# Altium footprint library BASE_BD.PcbLib: 63 footprints (part 3 of 4)
Each footprint in its own frame and in the unit in brackets; x right, y up, seen from the top. Pads: shape width x height; smd on the part's side, far side on the other; paste and mask are expansions set on the pad; w line width, h text height; cw(c..) or ccw(c..) is an arc to the next point about the centre after c.
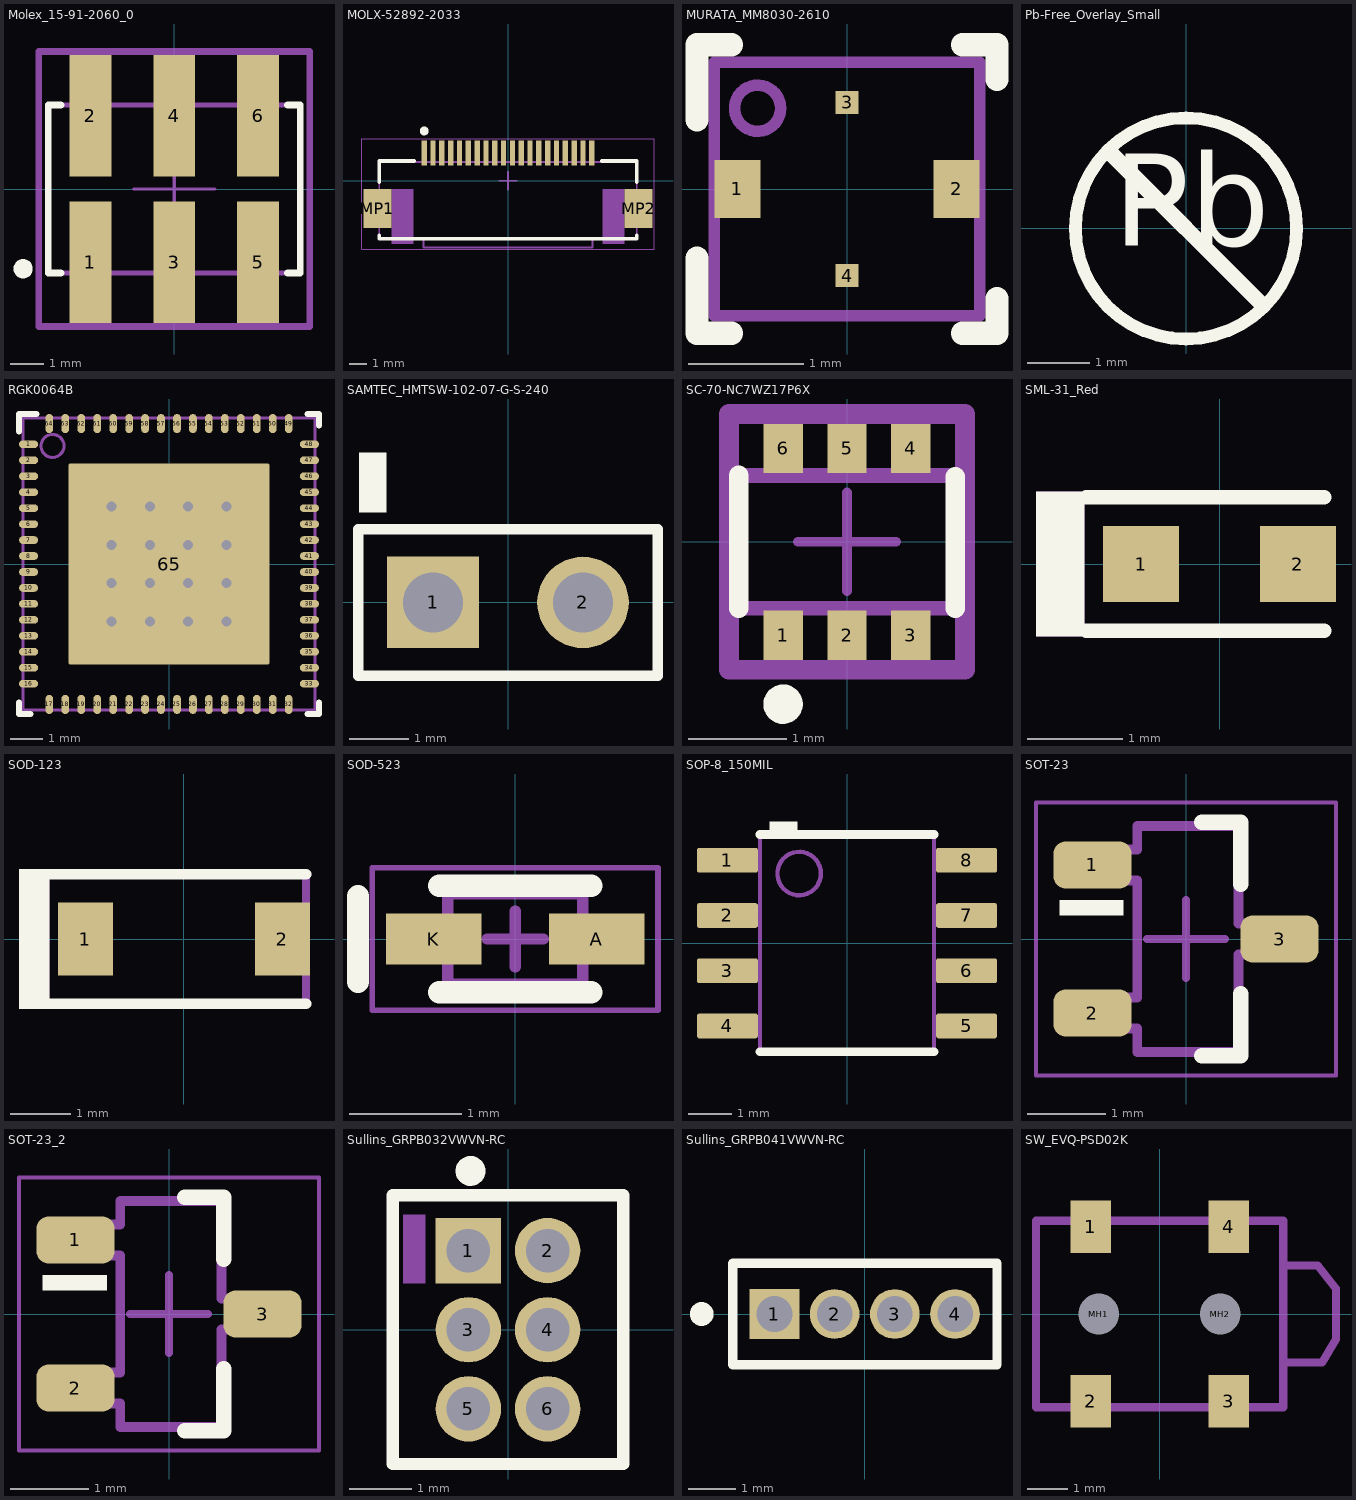
[diagram p2: the footprints below, top view; thin cyan lines are the x and y axes]

## Molex_15-91-2060_0 [mm]
pads (6):
  rect 1.27x3.68 smd paste+0 mask+0: 1(-2.54,-2.22) 2(-2.54,2.22) 3(0,-2.22) 4(0,2.22) 5(2.54,-2.22) 6(2.54,2.22)
Top Overlay:
  circle w0.33: c-4.572,-2.413 r0.125
  lines w0.2: -3.81,-2.54 -3.81,2.54 ; 3.81,-2.54 3.81,2.54
  lines w0.203: -3.81,-2.54 -3.429,-2.54 ; -3.81,2.54 -3.429,2.54 ; 3.429,-2.54 3.81,-2.54 ; 3.429,2.54 3.81,2.54
Mechanical 10:
  lines w0.2: -4.1,-4.16 4.1,-4.16 4.1,4.16 -4.1,4.16 -4.1,-4.16
  text ".Designator" at 0,0 h1
Mechanical 12:
  lines w0.15: -3.81,-2.54 3.81,-2.54 3.81,2.54 -3.81,2.54 -3.81,-2.54
Mechanical 15:
  lines w0.1: -1.23,0 1.23,0 ; 0,-1.23 0,1.23
  lines w0.2: -4.1,-4.16 4.1,-4.16 4.1,4.16 -4.1,4.16 -4.1,-4.16
3D body "3dmodel.step": height 0.25, standoff 0, extent -4.1,-4.16 4.1,4.16

## MOLX-52892-2033 [mm] "FPC Connector, 20-Leads, Right Angle, Pitch 0.5 mm, Mated Height 2.0 mm, SMT"
height 2.052
pads (22):
  rect 0.3x1.4 smd: 1(-4.75,1.575) 2(-4.25,1.575) 3(-3.75,1.575) 4(-3.25,1.575) 5(-2.75,1.575) 6(-2.25,1.575) 7(-1.75,1.575) 8(-1.25,1.575) 9(-0.75,1.575) 10(-0.25,1.575) 11(0.25,1.575) 12(0.75,1.575) 13(1.25,1.575) 14(1.75,1.575) 15(2.25,1.575) 16(2.75,1.575) 17(3.25,1.575) 18(3.75,1.575) 19(4.25,1.575) 20(4.75,1.575)
  rect 1.6x2.2 smd: MP1(-7.4,-1.575) MP2(7.4,-1.575)
Top Overlay:
  circle w0.25: c-4.75,2.825 r0.125
  lines w0.2: -7.3,-3.075 -7.3,-3.275 7.3,-3.275 7.3,-3.075 ; -7.3,-0.075 -7.3,1.125 -5.3,1.125 ; 5.3,1.125 7.3,1.125 7.3,-0.075
Mechanical 1:
  rectangle: 5.35,-3.581 6.6,-0.475
  rectangle: -6.604,-3.575 -5.35,-0.457
Mechanical 13:
  lines w0.1: -7.3,-3.275 -4.785,-3.275 -4.785,-3.775 4.785,-3.775 4.785,-3.275 7.3,-3.275 7.3,1.125 5.5,1.125 5.5,1.075 -5.5,1.075 -5.5,1.125 -7.3,1.125 -7.3,-3.275
Mechanical 15:
  lines w0.05: -8.3,-3.875 -8.3,2.375 8.3,2.375 8.3,-3.875 -8.3,-3.875
  lines w0.1: -0.5,0 0.5,0 ; 0,-0.5 0,0.5
3D body "528922033.stp": height 2.05, standoff 0.01, extent -7.7,-3.775 7.7,1.725

## MURATA_MM8030-2610 [mm] "Coaxial Connectors with Switch, SMD"
height 1
pads (4):
  rect 0.4x0.5 smd paste-0.5: 1(-0.95,0) 2(0.95,0)
  rect 0.2x0.2 smd: 3(0,0.75)
  rect 0.2x0.2 smd paste-0.2: 4(0,-0.75)
Top Overlay:
  lines w0.2: -1.3,-0.6 -1.3,-1.25 -1,-1.25 ; -1.3,0.6 -1.3,1.25 -1,1.25 ; 1,-1.25 1.3,-1.25 1.3,-0.95 ; 1,1.25 1.3,1.25 1.3,0.95
Top Paste:
  rectangle: -0.5,0.649 0.5,1.149
  rectangle: -1.15,-0.175 -0.8,0.175
  rectangle: 0.8,-0.175 1.15,0.175
  rectangle: -0.5,-1.149 0.5,-0.649
Top Solder:
  region: -0.32,0.45 -0.55,0.68 -0.55,1.15 0.55,1.15 0.55,0.68 0.32,0.45
  region: -0.32,-0.45 -0.55,-0.68 -0.55,-1.15 0.55,-1.15 0.55,-0.68 0.32,-0.45
Mechanical 5:
  circle w0.1: c-0.775,0.7 r0.2
  lines w0.1: -1.15,-1.1 1.15,-1.1 1.15,1.1 -1.15,1.1 -1.15,-1.1
  text ".Designator" at -0.32,0.45 h0.5
3D body: height 0.5, standoff 0, extent -1.151,-1.101 1.151,1.101
3D body: height 0.53, standoff 0.51, extent -1.151,-1.101 1.151,1.101
3D body: height 0.54, standoff 0.5, extent -0.674,-0.674 0.674,0.674
3D body: height 1, standoff 0.5, extent -0.674,-0.674 0.674,0.674
3D body: height 0.75, standoff 0.5, extent -0.269,-0.269 0.269,0.269
3D body: height 0.53, standoff 0, extent -0.7,0.6 0.7,1.1
3D body: height 0.53, standoff 0, extent -0.7,-1.1 0.7,-0.6
3D body: height 0.53, standoff 0, extent 0.9,-0.4 1.15,0.4
3D body: height 0.53, standoff 0, extent -1.15,-0.4 -0.9,0.4
3D body: height 0.51, standoff 0.5, extent -1.024,0.7 -0.825,0.9

## Pb-Free_Overlay_Small [mm]
Top Overlay:
  circle w0.203: c0,0 r1.778
  lines w0.254: -1.194,1.194 1.206,-1.206
  text "Pb" at -1.168,-0.762 h2.54

## RGK0064B [mm] "QFN, 9.0x9.0"
height 1
pads (65):
  rrect100% 0.6x0.24 smd paste-0.04: 1(-4.4,3.75) 2(-4.4,3.25) 3(-4.4,2.75) 4(-4.4,2.25) 5(-4.4,1.75) 6(-4.4,1.25) 7(-4.4,0.75) 8(-4.4,0.25) 9(-4.4,-0.25) 10(-4.4,-0.75) 11(-4.4,-1.25) 12(-4.4,-1.75) 13(-4.4,-2.25) 14(-4.4,-2.75) 15(-4.4,-3.25) 16(-4.4,-3.75) 33(4.4,-3.75) 34(4.4,-3.25) 35(4.4,-2.75) 36(4.4,-2.25) 37(4.4,-1.75) 38(4.4,-1.25) 39(4.4,-0.75) 40(4.4,-0.25) 41(4.4,0.25) 42(4.4,0.75) 43(4.4,1.25) 44(4.4,1.75) 45(4.4,2.25) 46(4.4,2.75) 47(4.4,3.25) 48(4.4,3.75)
  rrect100% 0.24x0.6 smd paste-0.04: 17(-3.75,-4.4) 18(-3.25,-4.4) 19(-2.75,-4.4) 20(-2.25,-4.4) 21(-1.75,-4.4) 22(-1.25,-4.4) 23(-0.75,-4.4) 24(-0.25,-4.4) 25(0.25,-4.4) 26(0.75,-4.4) 27(1.25,-4.4) 28(1.75,-4.4) 29(2.25,-4.4) 30(2.75,-4.4) 31(3.25,-4.4) 32(3.75,-4.4) 49(3.75,4.4) 50(3.25,4.4) 51(2.75,4.4) 52(2.25,4.4) 53(1.75,4.4) 54(1.25,4.4) 55(0.75,4.4) 56(0.25,4.4) 57(-0.25,4.4) 58(-0.75,4.4) 59(-1.25,4.4) 60(-1.75,4.4) 61(-2.25,4.4) 62(-2.75,4.4) 63(-3.25,4.4) 64(-3.75,4.4)
  rrect2% 6.3x6.3 smd paste-4: 65(0,0)
via -0.6,0.6 diameter 0.61 hole 0.307
via 0.6,0.6 diameter 0.61 hole 0.307
via 1.8,0.6 diameter 0.61 hole 0.307
via 1.8,1.8 diameter 0.61 hole 0.307
via 0.6,1.8 diameter 0.61 hole 0.307
via -0.6,1.8 diameter 0.61 hole 0.307
via -1.8,1.8 diameter 0.61 hole 0.307
via -1.8,0.6 diameter 0.61 hole 0.307
via 1.8,-0.6 diameter 0.61 hole 0.307
via 0.6,-0.6 diameter 0.61 hole 0.307
via -0.6,-0.6 diameter 0.61 hole 0.307
via -1.8,-0.6 diameter 0.61 hole 0.307
via -1.8,-1.8 diameter 0.61 hole 0.307
via -0.6,-1.8 diameter 0.61 hole 0.307
via 0.6,-1.8 diameter 0.61 hole 0.307
via 1.8,-1.8 diameter 0.61 hole 0.307
Top Overlay:
  lines w0.2: -4.7,-4.35 -4.7,-4.7 -4.35,-4.7 ; -4.7,4.15 -4.7,4.7 -4.15,4.7 ; 4.35,-4.7 4.7,-4.7 4.7,-4.35 ; 4.35,4.7 4.7,4.7 4.7,4.35
Top Paste:
  rectangle: -2.896,-1.697 -1.897,-0.698
  rectangle: -2.896,-0.499 -1.897,0.5
  rectangle: -1.697,-1.697 -0.698,-0.698
  rectangle: -0.5,-1.697 0.499,-0.698
  rectangle: -2.896,-2.896 -1.897,-1.897
  rectangle: -1.697,-2.896 -0.698,-1.897
  rectangle: -0.5,-2.896 0.499,-1.897
  rectangle: 0.698,-1.697 1.697,-0.698
  rectangle: 1.887,0.699 2.886,1.698
  rectangle: 1.897,1.897 2.896,2.896
  rectangle: 0.698,1.897 1.697,2.896
  rectangle: 0.698,0.698 1.697,1.697
  rectangle: 0.698,-0.499 1.697,0.5
  rectangle: 1.897,-2.896 2.896,-1.897
  rectangle: 1.897,-1.697 2.896,-0.698
  rectangle: 0.698,-2.896 1.697,-1.897
  rectangle: -2.896,1.897 -1.897,2.896
  rectangle: -1.697,1.897 -0.698,2.896
  rectangle: -0.499,1.897 0.5,2.896
  rectangle: -0.499,-0.499 0.5,0.5
  rectangle: -2.896,0.698 -1.897,1.697
  rectangle: -1.697,0.698 -0.698,1.697
  rectangle: -0.499,0.698 0.5,1.697
  rectangle: -1.697,-0.499 -0.698,0.5
  rectangle: 1.897,-0.499 2.896,0.5
Mechanical 5:
  circle w0.1: c-3.65,3.7 r0.361
  lines w0.1: -4.575,-4.575 -4.575,4.575 4.575,4.575 4.575,-4.575 -4.575,-4.575
  text ".Designator" at 1.062,0.536 h1.02
3D body: height 1.02, standoff 0.5, extent -4.01,3.34 -3.29,4.06
3D body: height 1, standoff 0, extent -4.574,-4.574 4.574,4.574

## SAMTEC_HMTSW-102-07-G-S-240 [mm] "Header, 2.54mm, 2x1, TH"
height 8.58
pads (2):
  rect 1.55x1.55 hole 1.02: 1(-1.27,0)
  round 1.55 hole 1.02: 2(1.27,0)
Top Overlay:
  region: -2.055,2.543 -2.527,2.543 -2.527,1.527 -2.055,1.527
  lines w0.178: -2.54,-1.24 2.54,-1.24 2.54,1.24 -2.54,1.24 -2.54,-1.24
Mechanical 5:
  lines w0.127: -2.54,-1.24 2.54,-1.24 2.54,1.24 -2.54,1.24 -2.54,-1.24
  text ".Designator" at -1.524,-0.508 h1.02
3D body "Samtec-HMTSW-102-07-G-S-240.stp": height 8.64, standoff -2.29, extent -2.54,-1.27 2.54,1.27

## SC-70-NC7WZ17P6X [mm]
pads (6):
  rect 0.4x0.5 smd paste+0 mask+0: 1(-0.65,-0.95) 2(0,-0.95) 3(0.65,-0.95) 4(0.65,0.95) 5(0,0.95) 6(-0.65,0.95)
Top Overlay:
  circle w0.2: c-0.65,-1.651 r0.1
  lines w0.2: -1.1,-0.675 -1.1,0.675 ; 1.1,-0.675 1.1,0.66
Mechanical 10:
  lines w0.2: -1.2,-1.3 -1.2,1.3 1.2,1.3 1.2,-1.3 -1.2,-1.3
  text ".Designator" at 0,0 h1
Mechanical 12:
  lines w0.15: -1.1,-0.675 -1.1,0.675 1.1,0.675 1.1,-0.675 -1.1,-0.675
Mechanical 15:
  lines w0.1: -0.5,0 0.5,0 ; 0,-0.5 0,0.5
  lines w0.2: -1.2,-1.3 -1.2,1.3 1.2,1.3 1.2,-1.3 -1.2,-1.3
3D body "IC_ON_Semi_NC7WZ17P6X_eec.STEP": height 0.25, standoff 0, extent -1.2,-1.3 1.2,1.3

## SML-31_Red [mm] "Rohm"
height 0.9
pads (2):
  rect 0.8x0.8 smd: 1(-0.825,0) 2(0.825,0)
Top Overlay:
  region: -1.422,0.762 -1.93,0.762 -1.93,-0.762 -1.422,-0.762
  lines w0.152: -1.4,-0.7 1.1,-0.7 ; -1.4,0.7 1.1,0.7
Mechanical 5:
  region: -1.422,0.762 -1.93,0.762 -1.93,-0.762 -1.422,-0.762
  lines w0.127: -1.626,-0.7 1.1,-0.7 ; -1.626,0.7 1.1,0.7
  text ".Designator" at -1.092,-0.305 h0.6
3D body: height 0.91, standoff 0.9, extent -0.65,-0.45 -0.45,0.45
3D body: height 0.3, standoff 0, extent -0.85,-0.45 -0.65,0.45
3D body: height 0.9, standoff 0, extent -0.65,-0.45 0.65,0.45
3D body: height 0.3, standoff 0, extent 0.65,-0.45 0.85,0.45

## SOD-123 [mm] "On Semi recommended land pattern"
height 1.35
pads (2):
  rect 0.915x1.22 smd: 1(-1.637,0) 2(1.637,0)
Top Overlay:
  rectangle: -2.743,-1.168 -2.235,1.168
  lines w0.178: -2.413,-1.079 2.032,-1.079 ; -2.413,1.079 2.032,1.079
Mechanical 5:
  rectangle: -2.743,-1.168 -2.235,1.168
  lines w0.127: -2.413,-1.079 2.032,-1.079 2.032,1.079 -2.413,1.079
  text ".Designator" at -0.711,-0.432 h0.76
3D body "SOD-123.stp": height 1.35, standoff 0, extent -1.932,-0.9 1.932,0.9

## SOD-523 [mm] "SOD, 2-Leads"
height 0.7
pads (2):
  rect 0.85x0.45 smd: A(0.725,0) K(-0.725,0)
Top Overlay:
  lines w0.2: -1.397,-0.381 -1.397,0.381 ; -0.675,-0.475 0.675,-0.475 ; -0.675,0.475 0.675,0.475
Mechanical 13:
  lines w0.1: -0.6,-0.4 -0.6,0.4 0.6,0.4 0.6,-0.4 -0.6,-0.4
Mechanical 15:
  lines w0.05: -1.27,-0.635 1.27,-0.635 1.27,0.635 -1.27,0.635 -1.27,-0.635
  lines w0.1: -0.25,0 0.25,0 ; 0,-0.25 0,0.25
3D body "User Library-SOD-523_SCD80_SC-79.STEP": height 0.6, standoff -0.2, extent -0.9,-0.449 0.9,0.45

## SOP-8_150MIL [mm] "SOP, 8-Leads, Body 5.03x4mm, Pitch 1.27mm"
height 1.75
pads (8):
  rrect18% 1.4x0.57 smd: 1(-2.75,1.905) 2(-2.75,0.635) 3(-2.75,-0.635) 4(-2.75,-1.905) 5(2.75,-1.905) 6(2.75,-0.635) 7(2.75,0.635) 8(2.75,1.905)
Top Overlay:
  rectangle: -1.778,2.54 -1.143,2.794
  lines w0.2: -2,-2.5 2,-2.5 ; -2,2.5 2,2.5
Mechanical 5:
  circle w0.1: c-1.1,1.6 r0.5
  lines w0.1: -2,-2.5 2,-2.5 2,2.5 -2,2.5 -2,-2.5
  text ".Designator" at -0.941,-0.237 h0.51
3D body: height 1.75, standoff 0.1, extent -2,-2.5 2,2.5
3D body: height 1.76, standoff 1.75, extent -1.599,1.101 -0.601,2.099

## SOT-23 [mm]
height 0.6
pads (3):
  rrect50% 1x0.6 smd: 1(-1.2,0.95) 2(-1.2,-0.95) 3(1.2,0)
Top Overlay:
  rectangle: -1.625,0.299 -0.8,0.499
  lines w0.2: 0.2,-1.5 0.7,-1.5 0.7,-0.7 ; 0.2,1.5 0.7,1.5 0.7,0.7
Mechanical 5:
  lines w0.127: -1.16,-1.15 -1.16,-0.75 -0.625,-0.75 -0.625,0.75 -1.16,0.75 -1.16,1.15 -0.625,1.15 -0.625,1.45 0.675,1.45 0.675,0.2 1.21,0.2 1.21,-0.2 0.675,-0.2 0.675,-1.45 -0.625,-1.45 -0.625,-1.15 -1.16,-1.15
  text ".Designator" at 0.271,-0.76 h0.64
Mechanical 15:
  lines w0.05: -1.925,-1.75 1.925,-1.75 1.925,1.75 -1.925,1.75 -1.925,-1.75
  lines w0.1: -0.5,0 0.5,0 ; 0,-0.5 0,0.5
3D body "SW3dPS-sot-3p290x130ll237h100.STEP": height 1, standoff 0, extent -1.16,-1.45 1.21,1.45

## SOT-23_2 [mm]
pads (3):
  rrect50% 1x0.6 smd: 1(-1.2,0.95) 2(-1.2,-0.95) 3(1.2,0)
Top Overlay:
  rectangle: -1.623,0.3 -0.798,0.5
  lines w0.2: 0.2,-1.5 0.7,-1.5 0.7,-0.7 ; 0.2,1.5 0.7,1.5 0.7,0.7
Mechanical 5:
  lines w0.127: -1.16,-1.15 -0.625,-1.15 -0.625,-1.45 0.675,-1.45 0.675,-0.2 1.21,-0.2 1.21,0.2 0.675,0.2 0.675,1.45 -0.625,1.45 -0.625,1.15 -1.16,1.15 -1.16,0.75 -0.625,0.75 -0.625,-0.75 -1.16,-0.75 -1.16,-1.15
  text ".Designator" at -0.279,0.584 h0.64
Mechanical 15:
  lines w0.05: -1.925,-1.75 -1.925,1.75 1.925,1.75 1.925,-1.75 -1.925,-1.75
  lines w0.1: -0.5,0 0.5,0 ; 0,-0.5 0,0.5
3D body "SW3dPS-sot-3p290x130ll237h100.STEP": height 1, standoff 0, extent -1.16,-1.45 1.21,1.45

## Sullins_GRPB032VWVN-RC [mm] "Sullins"
height 4
pads (6):
  rect 1.05x1.05 hole 0.7 paste+0: 1(-0.635,1.27)
  round 1.05 hole 0.7 paste+0: 2(0.635,1.27) 3(-0.635,0) 4(0.635,0) 5(-0.635,-1.27) 6(0.635,-1.27)
Top Overlay:
  circle w0.254: c-0.602,2.548 r0.112
  lines w0.2: -1.85,-2.155 -1.85,2.155 1.85,2.155 1.85,-2.155 -1.85,-2.155
Mechanical 5:
  rectangle: -1.681,0.742 -1.322,1.846
  lines w0.1: -1.85,-2.155 -1.85,2.155 1.85,2.155 1.85,-2.155 -1.85,-2.155
  text ".Designator" at -0.686,-2.438 h0.76
3D body: height 1.01, standoff 1, extent -1.474,1.083 -1.076,1.482
3D body: height 4, standoff -2.3, extent -0.835,1.07 -0.435,1.47
3D body: height 4, standoff -2.3, extent -0.835,-0.2 -0.435,0.2
3D body: height 4, standoff -2.3, extent -0.835,-1.47 -0.435,-1.07
3D body: height 4, standoff -2.3, extent 0.435,1.07 0.835,1.47
3D body: height 4, standoff -2.3, extent 0.435,-0.2 0.835,0.2
3D body: height 4, standoff -2.3, extent 0.435,-1.47 0.835,-1.07
3D body: height 1, standoff 0, extent -1.85,-2.155 1.85,2.155

## Sullins_GRPB041VWVN-RC [mm] "TH, Header, 1.27 mm, 4x1, Straight"
height 4.6
pads (4):
  rect 1.05x1.05 hole 0.75: 1(-1.905,0)
  round 1.05 hole 0.75: 2(-0.635,0)
  round 1.05 hole 0.75 mask+0.064: 3(0.635,0) 4(1.905,0)
Top Overlay:
  circle w0.3: c-3.44,0 r0.1
  lines w0.2: -2.79,-1.07 -2.79,1.07 2.79,1.07 2.79,-1.07 -2.79,-1.07
Mechanical 5:
  lines w0.1: -2.79,-1.07 2.79,-1.07 2.79,1.07 -2.79,1.07 -2.79,-1.07
  text ".Designator" at -1.177,-0.55 h1.02
3D body: height 4.3, standoff -2.3, extent 0.435,-0.2 0.835,0.2
3D body: height 4.3, standoff -2.3, extent -2.105,-0.2 -1.705,0.2
3D body: height 4.3, standoff -2.3, extent 1.705,-0.2 2.105,0.2
3D body: height 4.3, standoff -2.3, extent -0.835,-0.2 -0.435,0.2
3D body: height 1, standoff 0, extent -2.79,-1.07 2.79,1.07

## SW_EVQ-PSD02K [mm] "Panasonic"
height 1.8
pads (6):
  rect 1x1.3 smd: 1(-1.7,2.15) 2(-1.7,-2.15) 3(1.7,-2.15) 4(1.7,2.15)
  round 0.5 hole 1 unplated mask+0.381: MH1(-1.5,0) MH2(1.5,0)
Mechanical 5:
  lines w0.2: 3.05,-1.2 4,-1.2 4.35,-0.625 4.35,0.625 3.9,1.2 3.05,1.2 ; -3.05,-2.3 3.05,-2.3 3.05,2.3 -3.05,2.3 -3.05,-2.3
  text ".Designator" at -0.577,1.288 h1.02
3D body: height 1.8, standoff 0, extent -3.049,-2.299 3.049,2.299
3D body: height 1.6, standoff 0.1, extent 3.05,-1.2 4.35,1.2